# Altium footprint library Foot.PcbLib: 9 footprints
Each footprint in its own frame and in the unit in brackets; x right, y up, seen from the top. Pads: shape width x height; smd on the part's side, far side on the other; paste and mask are expansions set on the pad; w line width, h text height; cw(c..) or ccw(c..) is an arc to the next point about the centre after c.
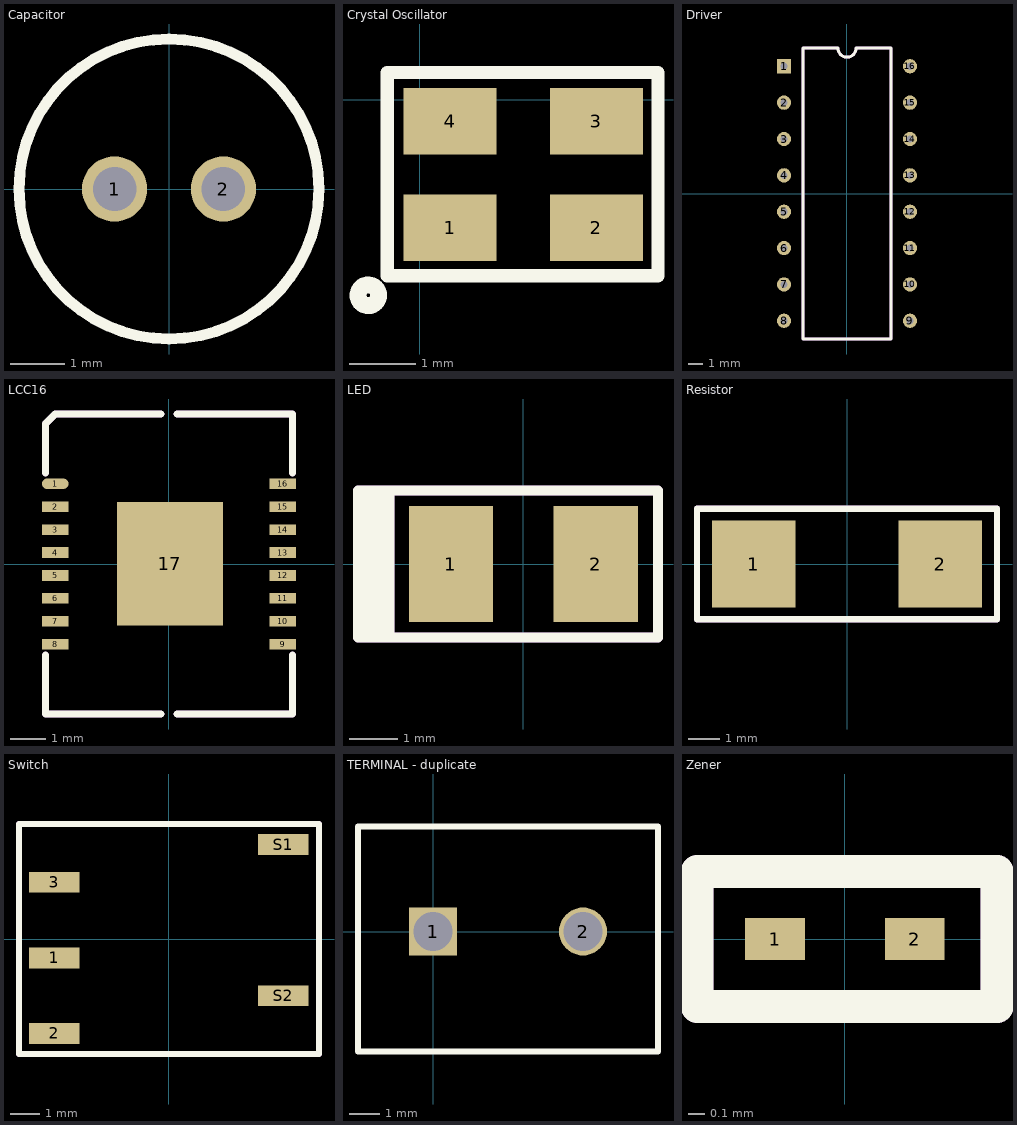
[diagram p0: the footprints below, top view; thin cyan lines are the x and y axes]

## Capacitor [mm]
pads (2):
  round 1.2 hole 0.8: 1(-1,0) 2(1,0)
Top Overlay:
  circle w0.2: c0,0 r2.756
Assembly Notes:
  text ".Designator" at -2.502,3.515 h1.52
3D body "CAP_WCAP-ATG5_05_0X11_0_WRE.step": height 12.51, standoff -4.22, extent -2.756,-2.753 2.785,2.753

## Crystal Oscillator [mm]
pads (4):
  rect 1.4x1 smd: 1(0.461,-1.927) 2(2.661,-1.927) 3(2.661,-0.327) 4(0.461,-0.327)
Top Overlay:
  circle w0.254: c-0.771,-2.945 r0.155
  lines w0.2: -0.488,-2.653 -0.488,0.408 3.587,0.408 3.587,-2.653 -0.488,-2.653
Mechanical 1:
  text ".Designator" at -0.234,1.17 h1.52
3D body "ASEK.STEP": height 1.2, standoff 0, extent -0.091,-2.402 3.109,0.098

## Driver [mm]
pads (16):
  rect 1x1 hole 0.5: 1(-4.4,8.89)
  round 1 hole 0.5: 2(-4.4,6.35) 3(-4.4,3.81) 4(-4.4,1.27) 5(-4.4,-1.27) 6(-4.4,-3.81) 7(-4.4,-6.35) 8(-4.4,-8.89) 9(4.4,-8.89) 10(4.4,-6.35) 11(4.4,-3.81) 12(4.4,-1.27) 13(4.4,1.27) 14(4.4,3.81) 15(4.4,6.35) 16(4.4,8.89)
Top Overlay:
  lines w0.2: -3.065,-10.16 3.065,-10.16 3.065,10.16 0.635,10.16 cw(c0,10.16) -0.635,10.16 -3.065,10.16 -3.065,-10.16
Assembly Notes:
  lines w0.2: -3.065,-10.16 3.065,-10.16 3.065,10.16 0.635,10.16 cw(c0,10.16) -0.635,10.16 -3.065,10.16 -3.065,-10.16
  text "'.Designator'" at -2.515,-1.372 h1
3D body "L293D.step": height 5.1, standoff -3.3, extent -4.62,-10 4.62,10

## LCC16 [mm]
pads (17):
  oval 0.75x0.3 smd: 1(-3.224,2.275)
  rect 0.75x0.3 smd: 2(-3.224,1.625) 3(-3.224,0.975) 4(-3.224,0.325) 5(-3.224,-0.325) 6(-3.224,-0.975) 7(-3.224,-1.625) 8(-3.224,-2.275) 9(3.224,-2.275) 10(3.224,-1.625) 11(3.224,-0.975) 12(3.224,-0.325) 13(3.224,0.325) 14(3.224,0.975) 15(3.224,1.625) 16(3.224,2.275)
  rect 3x3.5 smd: 17(0.023,0.01)
Top Overlay:
  lines w0.2: -3.499,-2.575 -3.499,-4.25 -0.224,-4.25 ; -3.499,2.575 -3.499,3.975 -3.224,4.25 -0.224,4.25 ; 0.224,-4.25 3.499,-4.25 3.499,-2.575 ; 0.224,4.25 3.499,4.25 3.499,2.575
Assembly Notes:
  lines w0.2: -3.499,-2.575 -3.499,-4.25 -0.224,-4.25 ; -3.499,2.575 -3.499,3.975 -3.224,4.25 -0.224,4.25 ; 0.224,-4.25 3.499,-4.25 3.499,-2.575 ; 0.224,4.25 3.499,4.25 3.499,2.575
  text "'.Designator'" at -3.607,-1.854 h1
3D body "PWP0016A.stp": height 1, standoff 0, extent -3.21,-2.5 3.21,2.5

## LED [mm]
pads (2):
  rect 1.75x2.4 smd: 1(-1.5,0) 2(1.5,0)
Top Overlay:
  rectangle: -3.429,-1.524 -2.675,1.524
  lines w0.2: -3.429,-1.524 2.794,-1.524 2.794,1.524 -3.429,1.524 -3.429,-1.524
Assembly Notes:
  rectangle: -3.429,-1.524 -2.675,1.524
  lines w0.2: -3.429,-1.524 2.794,-1.524 2.794,1.524 -3.429,1.524 -3.429,-1.524
  text "'.Designator'" at -2.489,-1.295 h1
3D body "150141GS73100.stp": height 1.91, standoff 0.01, extent -1.75,-1.4 1.75,1.4

## Resistor [mm]
pads (2):
  rect 2.69x2.79 smd: 1(-3.005,0) 2(3.005,0)
Top Overlay:
  lines w0.2: -4.826,-1.778 4.826,-1.778 4.826,1.778 -4.826,1.778 -4.826,-1.778
Assembly Notes:
  lines w0.2: -4.826,-1.778 4.826,-1.778 4.826,1.778 -4.826,1.778 -4.826,-1.778
  text "'.Designator'" at -4.445,-1.524 h1
3D body "RES_SMR1D_5P99X2P21_VIS.step": height 2.49, standoff 0, extent -3.15,-1.6 3.15,1.6

## Switch [mm]
pads (5):
  rect 1.7x0.7 smd: 1(-3.85,-0.635) 2(-3.85,-3.175) 3(-3.85,1.905) S1(3.85,3.175) S2(3.85,-1.905)
Top Overlay:
  lines w0.2: -5.029,-3.861 5.055,-3.861 5.055,3.861 -5.029,3.861 -5.029,-3.861
Assembly Notes:
  lines w0.2: -5.029,-3.861 5.055,-3.861 5.055,3.861 -5.029,3.861 -5.029,-3.861
  text "'.Designator'" at -4.851,-1.168 h1
3D body "G3T12AP.stp": height 12.96, standoff 0.01, extent -3.797,-4.255 3.797,4.255

## TERMINAL - duplicate [mm]
pads (2):
  rect 1.6x1.6 hole 1.3: 1(0,0)
  round 1.6 hole 1.3: 2(5,0)
Top Overlay:
  lines w0.2: -2.5,-4 -2.5,3.5 7.5,3.5 7.5,-4 -2.5,-4
Mechanical 1:
  text ".Designator" at -2.446,4.562 h1.52
3D body "691137710002.step": height 11.5, standoff -3.6, extent -2.5,-4 7.5,3.5

## Zener [mm]
pads (2):
  rect 0.36x0.25 smd: 1(-0.42,0) 2(0.42,0)
Top Overlay:
  lines w0.2: -0.889,-0.406 0.914,-0.406 0.914,0.406 -0.889,0.406 -0.889,-0.406
Assembly Notes:
  lines w0.2: -0.889,-0.406 0.914,-0.406 0.914,0.406 -0.889,0.406 -0.889,-0.406
  text "'.Designator'" at -1.448,-0.66 h1
3D body "ESD9B5.0ST5G.step": height 0.4, standoff 0, extent -0.5,-0.3 0.5,0.3